# EAGLE library part 74AXP1T45GWH (library 74AXP1T45)
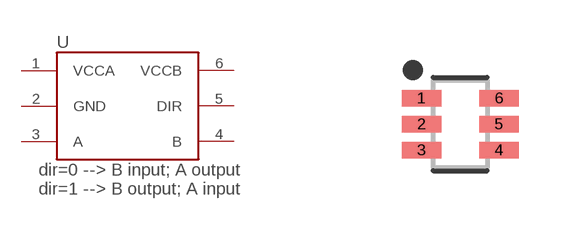
[diagram p0: symbol with the pads of SOT65P210X110-6N; footprint SOT65P210X110-6N]

Designator prefix U

## 74AXP1T45GWH (DIGIKEY: 1727-74AXP1T45GWHCT-ND; MFR: NEXPERIA; MFR_PN: 74AXP1T45GWH)  [SOT65P210X110-6N]
1  VCCA
2  GND
3  A
4  B
5  DIR
6  VCCB

## Footprint SOT65P210X110-6N (pad centres in mm)
6-SOT23, 0.65 mm pitch, 2.10 mm span, 2.00 X 1.25 X 1.10 mm body 6-pin SOT23 package with 0.65 mm pitch, 2.10 mm span with body size 2.00 X 1.25 X 1.10 mm
smd 0.988 x 0.41: 1 -0.97,0.65; 2 -0.97,0; 3 -0.97,-0.65; 4 0.97,-0.65; 5 0.97,0; 6 0.97,0.65